# Altium footprint library RFM95W.PcbLib: 1 footprints
Each footprint in its own frame and in the unit in brackets; x right, y up, seen from the top. Pads: shape width x height; smd on the part's side, far side on the other; paste and mask are expansions set on the pad; w line width, h text height; cw(c..) or ccw(c..) is an arc to the next point about the centre after c.
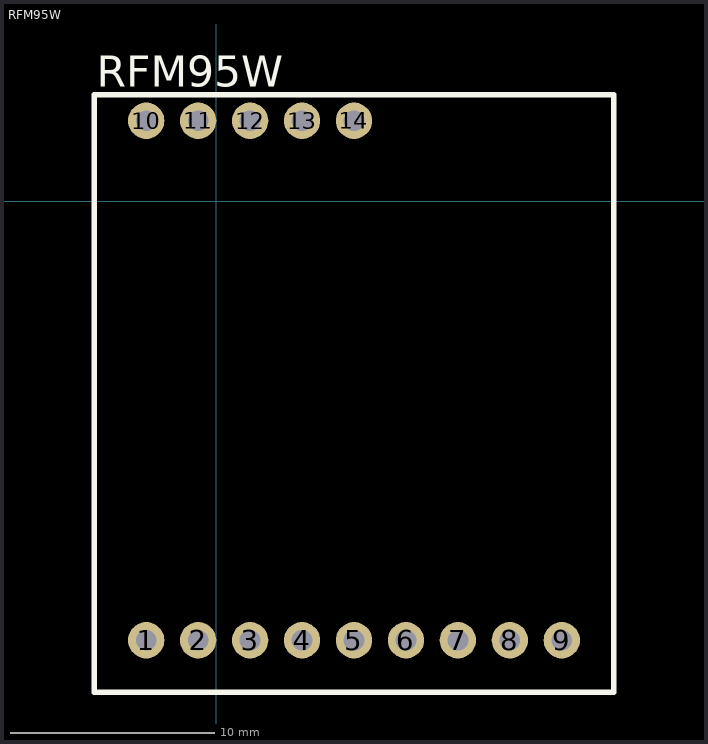
[diagram p0: the footprint, top view; thin cyan lines are the x and y axes]

## RFM95W [mil]
pads (14):
  round 70 hole 40: 1(-135,-845) 2(-35,-845) 3(65,-845) 4(165,-845) 5(265,-845) 6(365,-845) 7(465,-845) 8(565,-845) 9(665,-845) 10(-135,155) 11(-35,155) 12(65,155) 13(165,155) 14(265,155)
Top Overlay:
  lines w10: -235,-945 765,-945 765,205 -235,205 -235,-945
  text "RFM95W" at -230,220 h60
3D body "RFM95W v5 (1).step": height 242.56, standoff 99.61, extent -235,-945 765,205